# Altium footprint library DE-010824.PcbLib: 122 footprints (part 8 of 8)
Each footprint in its own frame and in the unit in brackets; x right, y up, seen from the top. Pads: shape width x height; smd on the part's side, far side on the other; paste and mask are expansions set on the pad; w line width, h text height; cw(c..) or ccw(c..) is an arc to the next point about the centre after c.
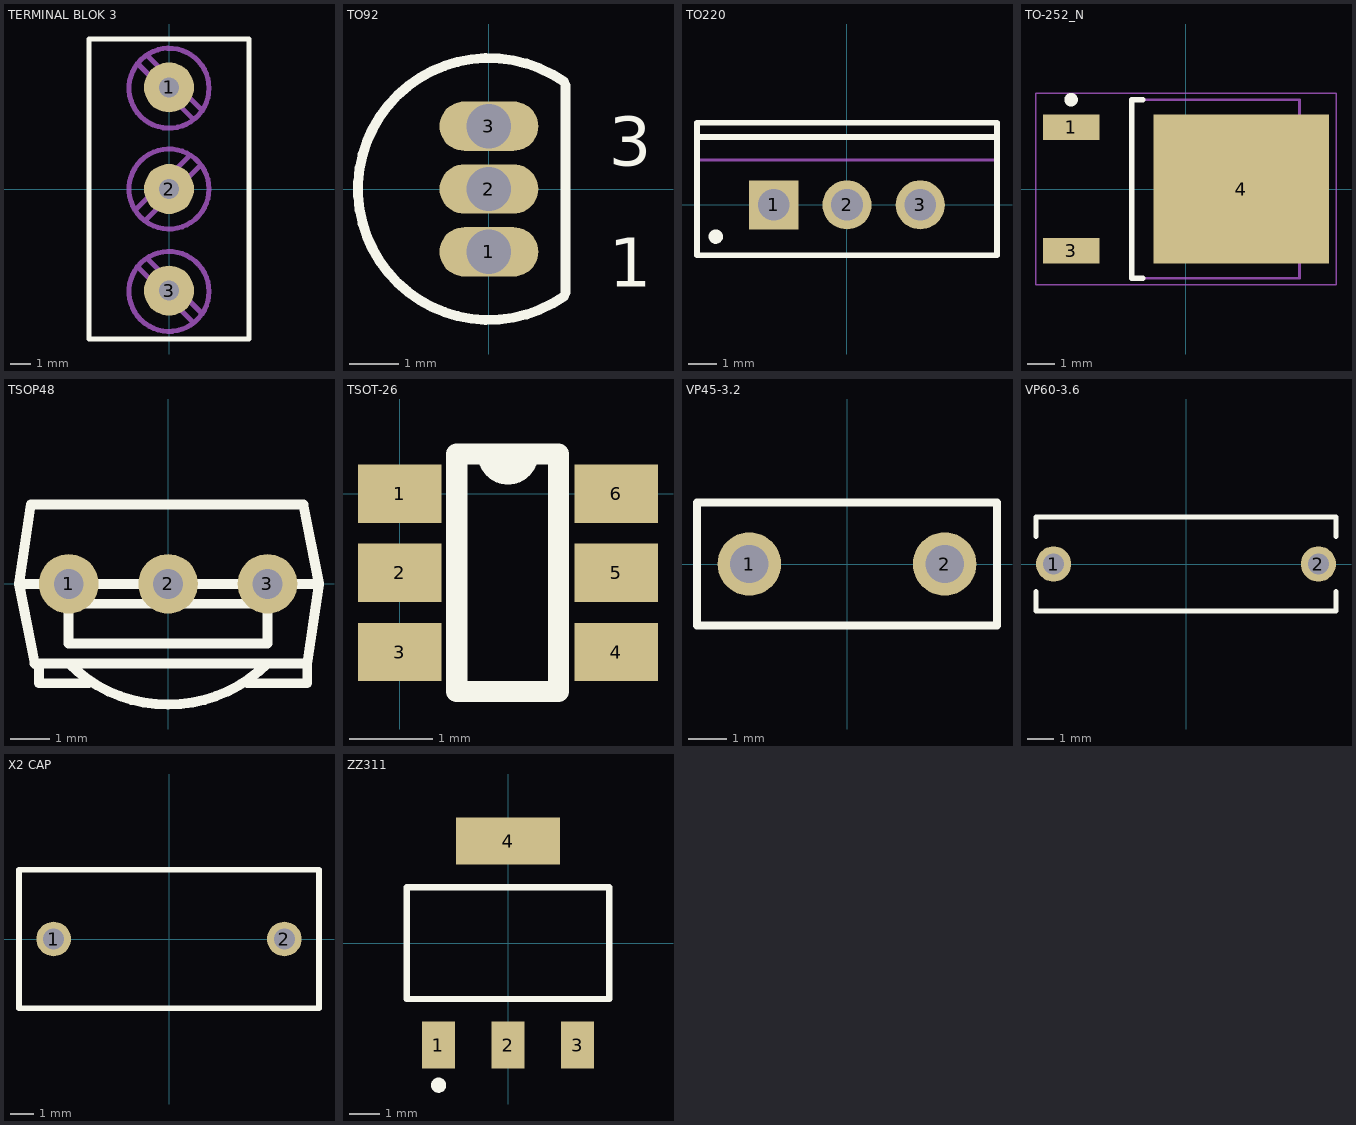
[diagram p7: the footprints below, top view; thin cyan lines are the x and y axes]

## TERMINAL BLOK 3 [mm] "Terminal blok konektor 3 pina"
height 0.254
pads (3):
  round 2.5 hole 1: 1(0,5.08) 2(0,0) 3(0,-5.08)
Top Overlay:
  lines w0.254: -4,-7.5 -4,7.5 4,7.5 4,-7.5 -4,-7.5
Mechanical 1:
  circle w0.254: c0,5.04 r2
  circle w0.254: c0,-5.12 r2
  circle w0.254: c0,0 r2
  lines w0.254: -1.651,-1.016 1.016,1.651 ; -1.524,-3.937 1.143,-6.604 ; -1.524,6.223 1.143,3.556 ; -1.143,-1.524 1.524,1.143 ; -1.079,-3.492 1.651,-6.223 ; -1.079,6.667 1.651,3.937

## TO92 [mm] "TO, Flat Index; 3 In-Line, Axial Leads; Body Dia. 4.8mm; Leads 0.51 x 0.51 mm (max)"
height 5.33
pads (3):
  oval 2x1 hole 0.9: 1(0,-1.27) 2(0,0) 3(0,1.27)
Top Overlay:
  lines w0.2: 1.52,-2.171 cw(c0,0) 1.52,2.171 ; 1.55,-2.1 1.55,2.1
  text "1" at 2.421,-1.979 h1
  text "3" at 2.421,0.467 h1

## TO220 [mm] "TO, Thru-Hole, Vertical, Heatsink Mounted; 3 In-Line Leads; Pitch 2.54 mm"
height 19.7
pads (3):
  rect 1.7x1.7 hole 1.1: 1(-2.54,0)
  round 1.7 hole 1.1: 2(0,0) 3(2.54,0)
Top Overlay:
  circle w0.25: c-4.55,-1.1 r0.125
  lines w0.2: -5.2,2.35 5.2,2.35 ; -5.2,-1.75 5.2,-1.75 5.2,2.85 -5.2,2.85 -5.2,-1.75
Mechanical 13:
  lines w0.1: -5.2,1.55 5.2,1.55 ; -5.2,-1.75 -5.2,2.85 5.2,2.85 5.2,-1.75 -5.2,-1.75
Mechanical 15:
  lines w0.1: -0.5,0 0.5,0 ; 0,-0.5 0,0.5
3D body: height 13.05, standoff 3.5, extent -5.25,-1.8 5.25,2.9
3D body: height 19.7, standoff 13.05, extent -5.199,1.551 5.199,2.849

## TO-252_N [mm] "D-PAK, 4-Leads, Body 6.1x6.5mm, Pitch 2.28mm, Lead Span 9.7mm, IPC Medium Density"
height 2.4
pads (3):
  rect 2.1x0.95 smd: 1(-4.25,2.28) 3(-4.25,-2.28)
  rect 6.5x5.5 smd: 4(2.05,0)
Top Overlay:
  circle w0.25: c-4.25,3.305 r0.125
  lines w0.2: -1.6,-3.3 -2,-3.3 -2,3.3 -1.6,3.3
Mechanical 13:
  lines w0.1: -2,-3.3 -2,3.3 4.2,3.3 4.2,-3.3 -2,-3.3
Mechanical 15:
  lines w0.05: -5.55,-3.55 -5.55,3.55 5.55,3.55 5.55,-3.55 -5.55,-3.55
  lines w0.1: -0.5,0 0.5,0 ; 0,-0.5 0,0.5
3D body: height 2.4, standoff 0, extent -2,-3.3 4.2,3.3

## TSOP48 [mil] "38kHZ IR receiver"
height 324.8
pads (3):
  round 60 hole 30: 1(-100,0) 2(0,0) 3(100,0)
Top Overlay:
  lines w10: -100,-80 ccw(c0,20) 100,-80 ; -80,-100 -130,-100 -130,-84.25 -134.25,-80 ; 80,-100 140,-100 140,-80 ; -150,0 -134.25,-80 ; -150,0 -138.19,80 136.06,80 151.81,0 ; -150,0 151.81,0 ; -134.25,-80 140,-80 ; 140,-80 151.81,0 ; -100,-60 100,-60 100,-20 -100,-20 -100,-60
3D body: height 273.62, standoff 39.37, extent -150,-130 150,80

## TSOT-26 [mm]
pads (6):
  rect 1x0.7 smd: 1(0,0) 2(0,-0.95) 3(0,-1.9) 4(2.6,-1.9) 5(2.6,-0.95) 6(2.6,0)
Top Overlay:
  lines w0.254: 0.686,-2.375 0.686,0.475 1.538,0.475 cw(c1.3,0.475) 1.062,0.475 1.905,0.475 1.905,-2.375 0.686,-2.375
3D body: height 1, standoff 0, extent 0.533,-2.515 2.032,0.61

## VP45-3.2 [mm] "Capacitor, Ceramic, Thru-Hole, Dipped Radial; Body 7.8 x 3.2 mm (WxT) Pin Spacing 5.08 mm (typ)"
height 10
pads (2):
  round 1.65 hole 1: 1(-2.54,0) 2(2.54,0)
Top Overlay:
  lines w0.2: -3.9,-1.6 3.9,-1.6 3.9,1.6 -3.9,1.6 -3.9,-1.6

## VP60-3.6 [mm] "Capacitor, Ceramic, Thru-Hole, Dipped Radial; Body 11.5 x 3.6 mm (WxT) Pin Spacing 10.16 mm (typ)"
height 14.5
pads (2):
  round 1.35 hole 0.8: 1(-5.08,0) 2(5.08,0)
Top Overlay:
  lines w0.2: -5.75,-1.05 -5.75,-1.8 5.75,-1.8 5.75,-1.05 ; -5.75,1.05 -5.75,1.8 5.75,1.8 5.75,1.05

## X2 CAP [mm] "X2 275VAC CAPACITOR"
height 10
pads (2):
  round 1.5 hole 0.9: 1(-5,0) 2(5,0)
Top Overlay:
  lines w0.254: -6.5,-3 -6.5,3 6.5,3 6.5,-3 -6.5,-3
3D body: height 10, standoff 0, extent -6.35,-3.048 6.35,3.048

## ZZ311 [mm] "SOT-223/SC-73; 4 Leads; Body 6.7 x 7.3 mm, inc. leads (LxW max)"
height 1.8
pads (4):
  rect 1.1x1.55 smd: 1(-2.3,-3.375) 2(0,-3.375) 3(2.3,-3.375)
  rect 3.45x1.55 smd: 4(0,3.375)
Top Overlay:
  circle w0.25: c-2.3,-4.7 r0.125
  lines w0.2: -3.35,-1.85 3.35,-1.85 3.35,1.85 -3.35,1.85 -3.35,-1.85